# Altium footprint library OpticalComponents.PcbLib: 41 footprints (part 2 of 3)
Each footprint in its own frame and in the unit in brackets; x right, y up, seen from the top. Pads: shape width x height; smd on the part's side, far side on the other; paste and mask are expansions set on the pad; w line width, h text height; cw(c..) or ccw(c..) is an arc to the next point about the centre after c.
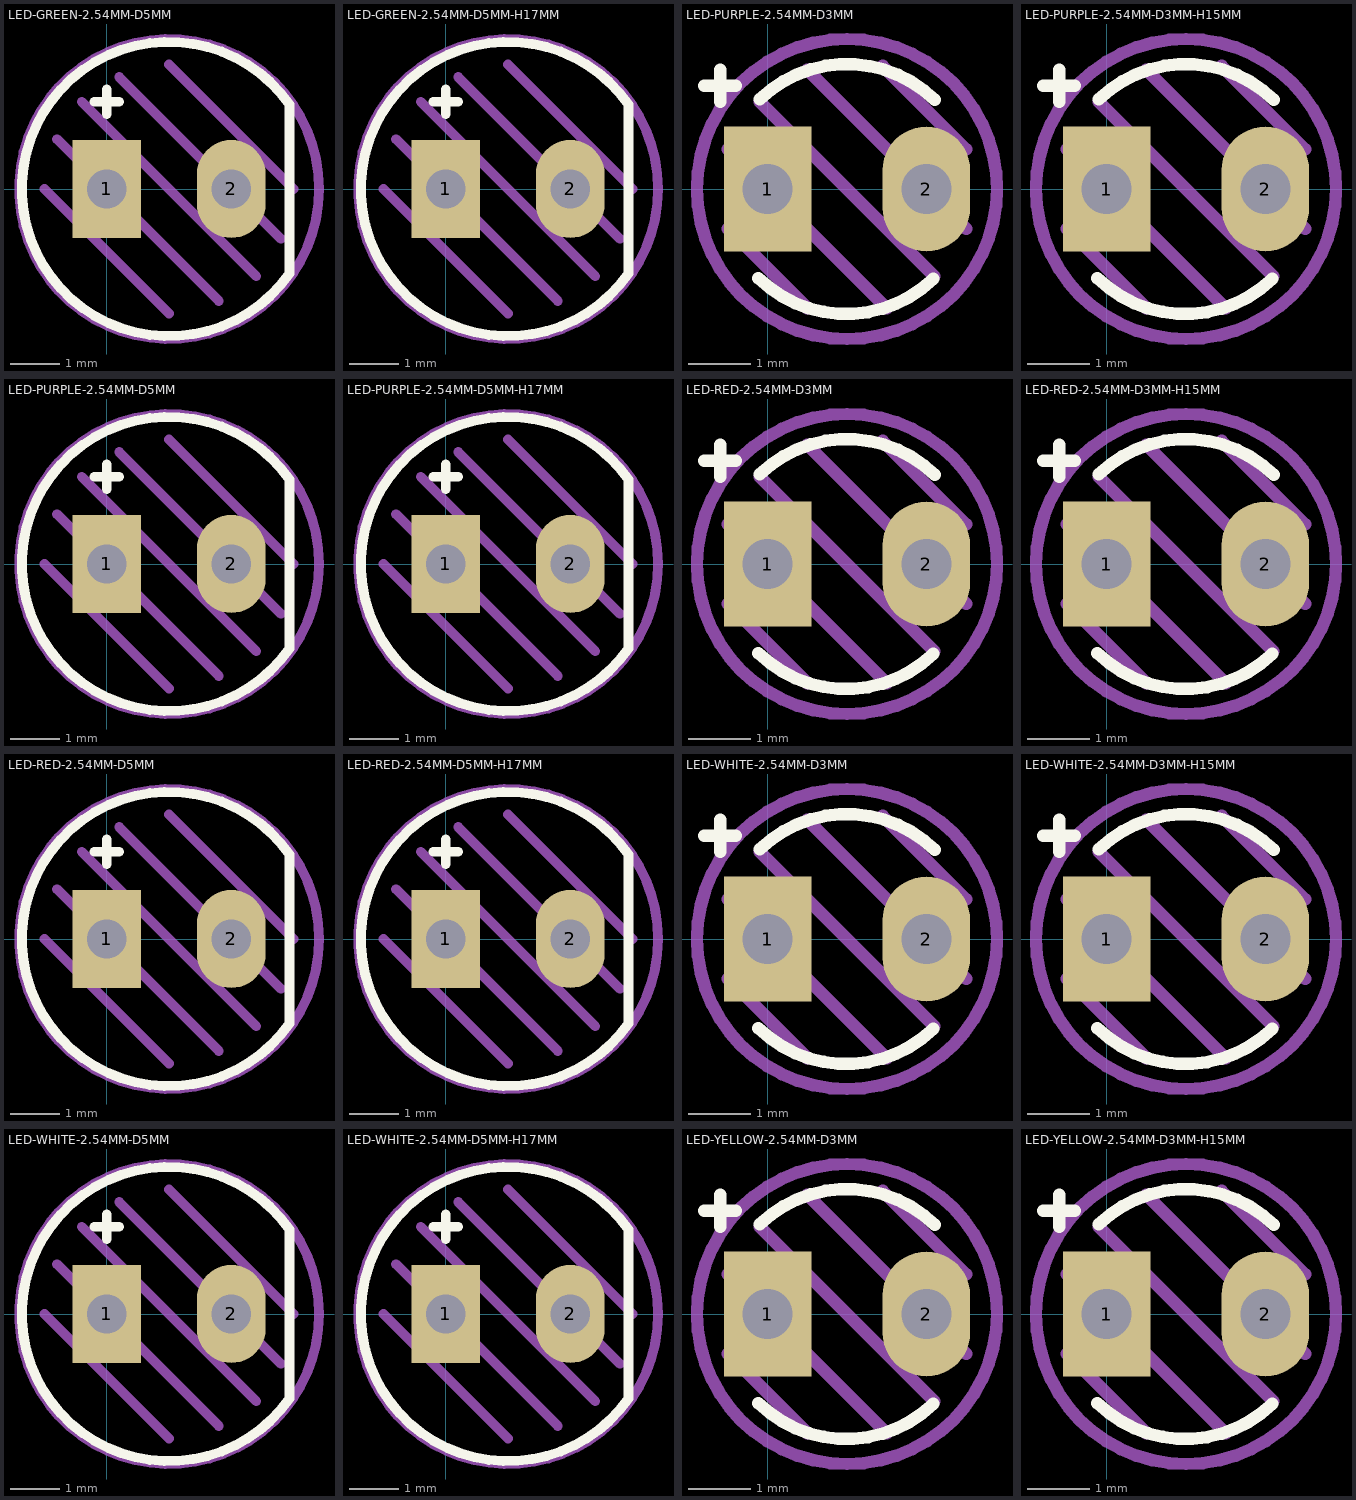
[diagram p1: the footprints below, top view; thin cyan lines are the x and y axes]

## LED-GREEN-2.54MM-D5MM [mm]
pads (2):
  rect 1.4x2 hole 0.8: 1(0,0)
  oval 1.4x2 hole 0.8: 2(2.54,0)
Top Overlay:
  lines w0.2: -0.254,1.778 -0.127,1.778 0.127,1.778 0.254,1.778 ; 0,1.524 0,2.032 ; 3.727,-1.721 cw(c1.27,0) 3.727,1.721 3.727,-1.721
Top Draw:
  circle w0.2: c1.27,0 r3.059
  lines w0.2: -1.27,0 1.27,-2.54 ; -1.016,1.016 2.286,-2.286 ; -0.508,1.778 3.048,-1.778 ; 0.254,2.286 3.556,-1.016 ; 1.27,2.54 3.81,0
Top Info:
  text "'.Comment'" at -1.578,-4.372 h1
3D body: height 0.5, standoff -3, extent -0.25,-0.25 0.25,0.25
3D body: height 0.5, standoff -3, extent 2.29,-0.25 2.79,0.25
3D body: height 5.2, standoff 1, extent -1.23,-2.5 3.77,2.5
3D body: height 7.7, standoff 2.7, extent -1.236,-2.5 3.764,2.5
3D body: height 1, standoff 0, extent -1.63,-2.909 3.77,2.909

## LED-GREEN-2.54MM-D5MM-H17MM [mm]
pads (2):
  rect 1.4x2 hole 0.8: 1(0,0)
  oval 1.4x2 hole 0.8: 2(2.54,0)
Top Overlay:
  lines w0.2: -0.254,1.778 -0.127,1.778 0.127,1.778 0.254,1.778 ; 0,1.524 0,2.032 ; 3.727,-1.721 cw(c1.27,0) 3.727,1.721 3.727,-1.721
Top Draw:
  circle w0.2: c1.27,0 r3.059
  lines w0.2: -1.27,0 1.27,-2.54 ; -1.016,1.016 2.286,-2.286 ; -0.508,1.778 3.048,-1.778 ; 0.254,2.286 3.556,-1.016 ; 1.27,2.54 3.81,0
Top Info:
  text "'.Comment'" at -1.578,-4.372 h1
3D body: height 10.3, standoff 9.3, extent -1.63,-2.909 3.77,2.909
3D body: height 17, standoff 12, extent -1.236,-2.5 3.764,2.5
3D body: height 14.5, standoff 10.3, extent -1.23,-2.5 3.77,2.5
3D body: height 7.8, standoff 7, extent 2.24,-0.25 2.84,0.25
3D body: height 7.8, standoff 7, extent -0.3,-0.25 0.3,0.25
3D body: height 10, standoff -3, extent -0.25,-0.25 0.25,0.25
3D body: height 10, standoff -3, extent 2.29,-0.25 2.79,0.25

## LED-PURPLE-2.54MM-D3MM [mm]
pads (2):
  rect 1.4x2 hole 0.8: 1(0,0)
  oval 1.4x2 hole 0.8: 2(2.54,0)
Top Overlay:
  lines w0.2: -1.016,1.651 -0.508,1.651 ; -0.762,1.397 -0.762,1.905 ; -0.147,-1.425 ccw(c1.257,-0.001) 2.653,-1.434 ; -0.125,1.433 cw(c1.27,0) 2.674,1.424
Top Draw:
  circle w0.2: c1.27,0 r2.4
  lines w0.2: -0.635,-0.635 0.635,-1.905 ; -0.635,0.635 1.905,-1.905 ; -0.127,1.397 2.667,-1.397 ; 0.635,1.905 3.175,-0.635 ; 1.841,1.968 3.175,0.635
Top Info:
  text "'.Comment'" at -1.705,-3.61 h1
3D body: height 0.5, standoff -1.78, extent 2.29,-0.25 2.79,0.25
3D body: height 3.7, standoff 1, extent -0.23,-1.5 2.77,1.5
3D body: height 5.3, standoff 2.3, extent -0.236,-1.5 2.764,1.5
3D body: height 0.5, standoff -1.78, extent -0.25,-0.25 0.25,0.25
3D body: height 1, standoff 0, extent -0.63,-1.91 2.77,1.91

## LED-PURPLE-2.54MM-D3MM-H15MM [mm]
pads (2):
  rect 1.4x2 hole 0.8: 1(0,0)
  oval 1.4x2 hole 0.8: 2(2.54,0)
Top Overlay:
  lines w0.2: -1.016,1.651 -0.508,1.651 ; -0.762,1.397 -0.762,1.905 ; -0.147,-1.425 ccw(c1.257,-0.001) 2.653,-1.434 ; -0.125,1.433 cw(c1.27,0) 2.674,1.424
Top Draw:
  circle w0.2: c1.27,0 r2.4
  lines w0.2: -0.635,-0.635 0.635,-1.905 ; -0.635,0.635 1.905,-1.905 ; -0.127,1.397 2.667,-1.397 ; 0.635,1.905 3.175,-0.635 ; 1.841,1.968 3.175,0.635
Top Info:
  text "'.Comment'" at -1.705,-3.61 h1
3D body: height 10, standoff -3, extent 2.29,-0.25 2.79,0.25
3D body: height 13.4, standoff 10.7, extent -0.23,-1.5 2.77,1.5
3D body: height 15, standoff 12, extent -0.236,-1.5 2.764,1.5
3D body: height 10, standoff -3, extent -0.25,-0.25 0.25,0.25
3D body: height 10.7, standoff 9.7, extent -0.63,-1.91 2.77,1.91
3D body: height 7.8, standoff 7, extent -0.3,-0.25 0.3,0.25
3D body: height 7.8, standoff 7, extent 2.24,-0.25 2.84,0.25

## LED-PURPLE-2.54MM-D5MM [mm]
pads (2):
  rect 1.4x2 hole 0.8: 1(0,0)
  oval 1.4x2 hole 0.8: 2(2.54,0)
Top Overlay:
  lines w0.2: -0.254,1.778 -0.127,1.778 0.127,1.778 0.254,1.778 ; 0,1.524 0,2.032 ; 3.727,-1.721 cw(c1.27,0) 3.727,1.721 3.727,-1.721
Top Draw:
  circle w0.2: c1.27,0 r3.059
  lines w0.2: -1.27,0 1.27,-2.54 ; -1.016,1.016 2.286,-2.286 ; -0.508,1.778 3.048,-1.778 ; 0.254,2.286 3.556,-1.016 ; 1.27,2.54 3.81,0
Top Info:
  text "'.Comment'" at -1.578,-4.372 h1
3D body: height 1, standoff 0, extent -1.63,-2.909 3.77,2.909
3D body: height 7.7, standoff 2.7, extent -1.236,-2.5 3.764,2.5
3D body: height 5.2, standoff 1, extent -1.23,-2.5 3.77,2.5
3D body: height 0.5, standoff -3, extent 2.29,-0.25 2.79,0.25
3D body: height 0.5, standoff -3, extent -0.25,-0.25 0.25,0.25

## LED-PURPLE-2.54MM-D5MM-H17MM [mm]
pads (2):
  rect 1.4x2 hole 0.8: 1(0,0)
  oval 1.4x2 hole 0.8: 2(2.54,0)
Top Overlay:
  lines w0.2: -0.254,1.778 -0.127,1.778 0.127,1.778 0.254,1.778 ; 0,1.524 0,2.032 ; 3.727,-1.721 cw(c1.27,0) 3.727,1.721 3.727,-1.721
Top Draw:
  circle w0.2: c1.27,0 r3.059
  lines w0.2: -1.27,0 1.27,-2.54 ; -1.016,1.016 2.286,-2.286 ; -0.508,1.778 3.048,-1.778 ; 0.254,2.286 3.556,-1.016 ; 1.27,2.54 3.81,0
Top Info:
  text "'.Comment'" at -1.578,-4.372 h1
3D body: height 10.3, standoff 9.3, extent -1.63,-2.909 3.77,2.909
3D body: height 17, standoff 12, extent -1.236,-2.5 3.764,2.5
3D body: height 14.5, standoff 10.3, extent -1.23,-2.5 3.77,2.5
3D body: height 7.8, standoff 7, extent 2.24,-0.25 2.84,0.25
3D body: height 7.8, standoff 7, extent -0.3,-0.25 0.3,0.25
3D body: height 10, standoff -3, extent -0.25,-0.25 0.25,0.25
3D body: height 10, standoff -3, extent 2.29,-0.25 2.79,0.25

## LED-RED-2.54MM-D3MM [mm]
pads (2):
  rect 1.4x2 hole 0.8: 1(0,0)
  oval 1.4x2 hole 0.8: 2(2.54,0)
Top Overlay:
  lines w0.2: -1.016,1.651 -0.508,1.651 ; -0.762,1.397 -0.762,1.905 ; -0.147,-1.425 ccw(c1.257,-0.001) 2.653,-1.434 ; -0.125,1.433 cw(c1.27,0) 2.674,1.424
Top Draw:
  circle w0.2: c1.27,0 r2.4
  lines w0.2: -0.635,-0.635 0.635,-1.905 ; -0.635,0.635 1.905,-1.905 ; -0.127,1.397 2.667,-1.397 ; 0.635,1.905 3.175,-0.635 ; 1.841,1.968 3.175,0.635
Top Info:
  text "'.Comment'" at -1.705,-3.61 h1
3D body: height 1, standoff 0, extent -0.63,-1.91 2.77,1.91
3D body: height 0.5, standoff -1.78, extent -0.25,-0.25 0.25,0.25
3D body: height 5.3, standoff 2.3, extent -0.236,-1.5 2.764,1.5
3D body: height 3.7, standoff 1, extent -0.23,-1.5 2.77,1.5
3D body: height 0.5, standoff -1.78, extent 2.29,-0.25 2.79,0.25

## LED-RED-2.54MM-D3MM-H15MM [mm]
pads (2):
  rect 1.4x2 hole 0.8: 1(0,0)
  oval 1.4x2 hole 0.8: 2(2.54,0)
Top Overlay:
  lines w0.2: -1.016,1.651 -0.508,1.651 ; -0.762,1.397 -0.762,1.905 ; -0.147,-1.425 ccw(c1.257,-0.001) 2.653,-1.434 ; -0.125,1.433 cw(c1.27,0) 2.674,1.424
Top Draw:
  circle w0.2: c1.27,0 r2.4
  lines w0.2: -0.635,-0.635 0.635,-1.905 ; -0.635,0.635 1.905,-1.905 ; -0.127,1.397 2.667,-1.397 ; 0.635,1.905 3.175,-0.635 ; 1.841,1.968 3.175,0.635
Top Info:
  text "'.Comment'" at -1.705,-3.61 h1
3D body: height 7.8, standoff 7, extent 2.24,-0.25 2.84,0.25
3D body: height 7.8, standoff 7, extent -0.3,-0.25 0.3,0.25
3D body: height 10.7, standoff 9.7, extent -0.63,-1.91 2.77,1.91
3D body: height 10, standoff -3, extent -0.25,-0.25 0.25,0.25
3D body: height 15, standoff 12, extent -0.236,-1.5 2.764,1.5
3D body: height 13.4, standoff 10.7, extent -0.23,-1.5 2.77,1.5
3D body: height 10, standoff -3, extent 2.29,-0.25 2.79,0.25

## LED-RED-2.54MM-D5MM [mm]
pads (2):
  rect 1.4x2 hole 0.8: 1(0,0)
  oval 1.4x2 hole 0.8: 2(2.54,0)
Top Overlay:
  lines w0.2: -0.254,1.778 -0.127,1.778 0.127,1.778 0.254,1.778 ; 0,1.524 0,2.032 ; 3.727,-1.721 cw(c1.27,0) 3.727,1.721 3.727,-1.721
Top Draw:
  circle w0.2: c1.27,0 r3.059
  lines w0.2: -1.27,0 1.27,-2.54 ; -1.016,1.016 2.286,-2.286 ; -0.508,1.778 3.048,-1.778 ; 0.254,2.286 3.556,-1.016 ; 1.27,2.54 3.81,0
Top Info:
  text "'.Comment'" at -1.578,-4.372 h1
3D body: height 0.5, standoff -3, extent -0.25,-0.25 0.25,0.25
3D body: height 0.5, standoff -3, extent 2.29,-0.25 2.79,0.25
3D body: height 5.2, standoff 1, extent -1.23,-2.5 3.77,2.5
3D body: height 7.7, standoff 2.7, extent -1.236,-2.5 3.764,2.5
3D body: height 1, standoff 0, extent -1.63,-2.909 3.77,2.909

## LED-RED-2.54MM-D5MM-H17MM [mm]
pads (2):
  rect 1.4x2 hole 0.8: 1(0,0)
  oval 1.4x2 hole 0.8: 2(2.54,0)
Top Overlay:
  lines w0.2: -0.254,1.778 -0.127,1.778 0.127,1.778 0.254,1.778 ; 0,1.524 0,2.032 ; 3.727,-1.721 cw(c1.27,0) 3.727,1.721 3.727,-1.721
Top Draw:
  circle w0.2: c1.27,0 r3.059
  lines w0.2: -1.27,0 1.27,-2.54 ; -1.016,1.016 2.286,-2.286 ; -0.508,1.778 3.048,-1.778 ; 0.254,2.286 3.556,-1.016 ; 1.27,2.54 3.81,0
Top Info:
  text "'.Comment'" at -1.578,-4.372 h1
3D body: height 10, standoff -3, extent 2.29,-0.25 2.79,0.25
3D body: height 10, standoff -3, extent -0.25,-0.25 0.25,0.25
3D body: height 7.8, standoff 7, extent -0.3,-0.25 0.3,0.25
3D body: height 7.8, standoff 7, extent 2.24,-0.25 2.84,0.25
3D body: height 14.5, standoff 10.3, extent -1.23,-2.5 3.77,2.5
3D body: height 17, standoff 12, extent -1.236,-2.5 3.764,2.5
3D body: height 10.3, standoff 9.3, extent -1.63,-2.909 3.77,2.909

## LED-WHITE-2.54MM-D3MM [mm]
pads (2):
  rect 1.4x2 hole 0.8: 1(0,0)
  oval 1.4x2 hole 0.8: 2(2.54,0)
Top Overlay:
  lines w0.2: -1.016,1.651 -0.508,1.651 ; -0.762,1.397 -0.762,1.905 ; -0.147,-1.425 ccw(c1.257,-0.001) 2.653,-1.434 ; -0.125,1.433 cw(c1.27,0) 2.674,1.424
Top Draw:
  circle w0.2: c1.27,0 r2.4
  lines w0.2: -0.635,-0.635 0.635,-1.905 ; -0.635,0.635 1.905,-1.905 ; -0.127,1.397 2.667,-1.397 ; 0.635,1.905 3.175,-0.635 ; 1.841,1.968 3.175,0.635
Top Info:
  text "'.Comment'" at -1.705,-3.61 h1
3D body: height 0.5, standoff -1.78, extent 2.29,-0.25 2.79,0.25
3D body: height 3.7, standoff 1, extent -0.23,-1.5 2.77,1.5
3D body: height 5.3, standoff 2.3, extent -0.236,-1.5 2.764,1.5
3D body: height 0.5, standoff -1.78, extent -0.25,-0.25 0.25,0.25
3D body: height 1, standoff 0, extent -0.63,-1.91 2.77,1.91

## LED-WHITE-2.54MM-D3MM-H15MM [mm]
pads (2):
  rect 1.4x2 hole 0.8: 1(0,0)
  oval 1.4x2 hole 0.8: 2(2.54,0)
Top Overlay:
  lines w0.2: -1.016,1.651 -0.508,1.651 ; -0.762,1.397 -0.762,1.905 ; -0.147,-1.425 ccw(c1.257,-0.001) 2.653,-1.434 ; -0.125,1.433 cw(c1.27,0) 2.674,1.424
Top Draw:
  circle w0.2: c1.27,0 r2.4
  lines w0.2: -0.635,-0.635 0.635,-1.905 ; -0.635,0.635 1.905,-1.905 ; -0.127,1.397 2.667,-1.397 ; 0.635,1.905 3.175,-0.635 ; 1.841,1.968 3.175,0.635
Top Info:
  text "'.Comment'" at -1.705,-3.61 h1
3D body: height 10, standoff -3, extent 2.29,-0.25 2.79,0.25
3D body: height 13.4, standoff 10.7, extent -0.23,-1.5 2.77,1.5
3D body: height 15, standoff 12, extent -0.236,-1.5 2.764,1.5
3D body: height 10, standoff -3, extent -0.25,-0.25 0.25,0.25
3D body: height 10.7, standoff 9.7, extent -0.63,-1.91 2.77,1.91
3D body: height 7.8, standoff 7, extent -0.3,-0.25 0.3,0.25
3D body: height 7.8, standoff 7, extent 2.24,-0.25 2.84,0.25

## LED-WHITE-2.54MM-D5MM [mm]
pads (2):
  rect 1.4x2 hole 0.8: 1(0,0)
  oval 1.4x2 hole 0.8: 2(2.54,0)
Top Overlay:
  lines w0.2: -0.254,1.778 -0.127,1.778 0.127,1.778 0.254,1.778 ; 0,1.524 0,2.032 ; 3.727,-1.721 cw(c1.27,0) 3.727,1.721 3.727,-1.721
Top Draw:
  circle w0.2: c1.27,0 r3.059
  lines w0.2: -1.27,0 1.27,-2.54 ; -1.016,1.016 2.286,-2.286 ; -0.508,1.778 3.048,-1.778 ; 0.254,2.286 3.556,-1.016 ; 1.27,2.54 3.81,0
Top Info:
  text "'.Comment'" at -1.578,-4.372 h1
3D body: height 0.5, standoff -3, extent -0.25,-0.25 0.25,0.25
3D body: height 0.5, standoff -3, extent 2.29,-0.25 2.79,0.25
3D body: height 5.2, standoff 1, extent -1.23,-2.5 3.77,2.5
3D body: height 7.7, standoff 2.7, extent -1.236,-2.5 3.764,2.5
3D body: height 1, standoff 0, extent -1.63,-2.909 3.77,2.909

## LED-WHITE-2.54MM-D5MM-H17MM [mm]
pads (2):
  rect 1.4x2 hole 0.8: 1(0,0)
  oval 1.4x2 hole 0.8: 2(2.54,0)
Top Overlay:
  lines w0.2: -0.254,1.778 -0.127,1.778 0.127,1.778 0.254,1.778 ; 0,1.524 0,2.032 ; 3.727,-1.721 cw(c1.27,0) 3.727,1.721 3.727,-1.721
Top Draw:
  circle w0.2: c1.27,0 r3.059
  lines w0.2: -1.27,0 1.27,-2.54 ; -1.016,1.016 2.286,-2.286 ; -0.508,1.778 3.048,-1.778 ; 0.254,2.286 3.556,-1.016 ; 1.27,2.54 3.81,0
Top Info:
  text "'.Comment'" at -1.578,-4.372 h1
3D body: height 10, standoff -3, extent 2.29,-0.25 2.79,0.25
3D body: height 10, standoff -3, extent -0.25,-0.25 0.25,0.25
3D body: height 7.8, standoff 7, extent -0.3,-0.25 0.3,0.25
3D body: height 7.8, standoff 7, extent 2.24,-0.25 2.84,0.25
3D body: height 14.5, standoff 10.3, extent -1.23,-2.5 3.77,2.5
3D body: height 17, standoff 12, extent -1.236,-2.5 3.764,2.5
3D body: height 10.3, standoff 9.3, extent -1.63,-2.909 3.77,2.909

## LED-YELLOW-2.54MM-D3MM [mm]
pads (2):
  rect 1.4x2 hole 0.8: 1(0,0)
  oval 1.4x2 hole 0.8: 2(2.54,0)
Top Overlay:
  lines w0.2: -1.016,1.651 -0.508,1.651 ; -0.762,1.397 -0.762,1.905 ; -0.147,-1.425 ccw(c1.257,-0.001) 2.653,-1.434 ; -0.125,1.433 cw(c1.27,0) 2.674,1.424
Top Draw:
  circle w0.2: c1.27,0 r2.4
  lines w0.2: -0.635,-0.635 0.635,-1.905 ; -0.635,0.635 1.905,-1.905 ; -0.127,1.397 2.667,-1.397 ; 0.635,1.905 3.175,-0.635 ; 1.841,1.968 3.175,0.635
Top Info:
  text "'.Comment'" at -1.705,-3.61 h1
3D body: height 0.5, standoff -1.78, extent 2.29,-0.25 2.79,0.25
3D body: height 3.7, standoff 1, extent -0.23,-1.5 2.77,1.5
3D body: height 5.3, standoff 2.3, extent -0.236,-1.5 2.764,1.5
3D body: height 0.5, standoff -1.78, extent -0.25,-0.25 0.25,0.25
3D body: height 1, standoff 0, extent -0.63,-1.91 2.77,1.91

## LED-YELLOW-2.54MM-D3MM-H15MM [mm]
pads (2):
  rect 1.4x2 hole 0.8: 1(0,0)
  oval 1.4x2 hole 0.8: 2(2.54,0)
Top Overlay:
  lines w0.2: -1.016,1.651 -0.508,1.651 ; -0.762,1.397 -0.762,1.905 ; -0.147,-1.425 ccw(c1.257,-0.001) 2.653,-1.434 ; -0.125,1.433 cw(c1.27,0) 2.674,1.424
Top Draw:
  circle w0.2: c1.27,0 r2.4
  lines w0.2: -0.635,-0.635 0.635,-1.905 ; -0.635,0.635 1.905,-1.905 ; -0.127,1.397 2.667,-1.397 ; 0.635,1.905 3.175,-0.635 ; 1.841,1.968 3.175,0.635
Top Info:
  text "'.Comment'" at -1.705,-3.61 h1
3D body: height 7.8, standoff 7, extent 2.24,-0.25 2.84,0.25
3D body: height 7.8, standoff 7, extent -0.3,-0.25 0.3,0.25
3D body: height 10.7, standoff 9.7, extent -0.63,-1.91 2.77,1.91
3D body: height 10, standoff -3, extent -0.25,-0.25 0.25,0.25
3D body: height 15, standoff 12, extent -0.236,-1.5 2.764,1.5
3D body: height 13.4, standoff 10.7, extent -0.23,-1.5 2.77,1.5
3D body: height 10, standoff -3, extent 2.29,-0.25 2.79,0.25